# EAGLE library part TPS54625 (library TPS54625)
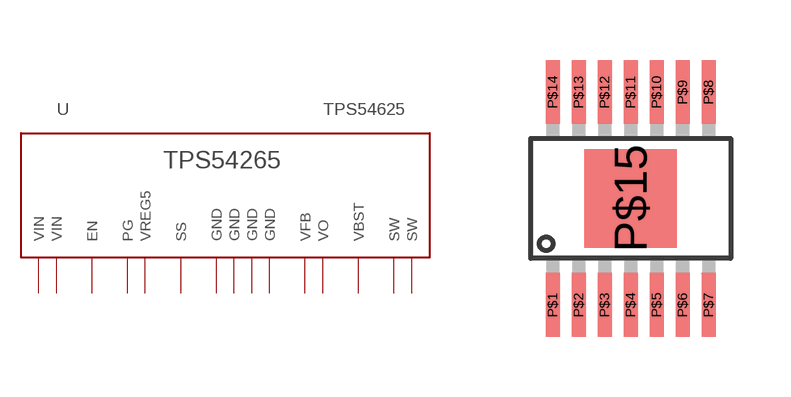
[diagram p0: symbol with the pads of HTSSOP-14; footprint HTSSOP-14]

Designator prefix U

## TPS54625  [HTSSOP-14]
P$1  VO
P$2  VFB
P$3  VREG5
P$4  SS
P$5  GND
P$6  PG
P$7  EN
P$8  GND
P$9  GND
P$10  SW
P$11  SW
P$12  VBST
P$13  VIN
P$14  VIN
P$15  GND

## Footprint HTSSOP-14 (pad centres in mm)
smd 0.35 x 1.6: P$1 -1.95,-2.66; P$2 -1.3,-2.66; P$3 -0.65,-2.66; P$4 0,-2.66; P$5 0.65,-2.66; P$6 1.3,-2.66; P$7 1.95,-2.66; P$8 1.95,2.66; P$9 1.3,2.66; P$10 0.65,2.66; P$11 0,2.66; P$12 -0.65,2.66; P$13 -1.3,2.66; P$14 -1.95,2.66
smd 2.31 x 2.46: P$15 0,0